# Altium schematic symbol library MMCX-P-P-X-ST-TH1.SchLib: 1 symbol
Pins are listed as number, name and electrical type; pins without a type are passive.

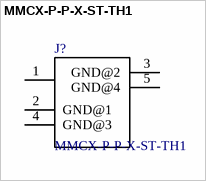
[diagram p0: symbol MMCX-P-P-X-ST-TH1]

## MMCX-P-P-X-ST-TH1
designator J?
CONN MMCX PLUG STR 50 OHM PCB; MF: Samtec; MP: MMCX-P-P-H-ST-TH1; Package: None; Digi-Key_Purchase_URL: https://www.digikey.com/product-detail/en/samtec-inc/MMCX-P-P-H-ST-TH1/SAM10618-ND/6561612?WT.z_cid=ref_snapeda&utm_source=snapeda&utm_medium=aggregator&utm_campaign=buynow; Digi-Key_Part_Number: SAM10618-ND; Value: *
footprint MMCX-P-P-X-ST-TH1 (Footprint not found)
footprint MMCX-P-P-X-ST-TH1
pins: 1, 2 GND@1 (power), 3 GND@2 (power), 4 GND@3 (power), 5 GND@4 (power)